# Altium schematic symbol library 74AVCH16T245DGG_18.SchLib: 1 symbol
Pins are listed as number, name and electrical type; pins without a type are passive.

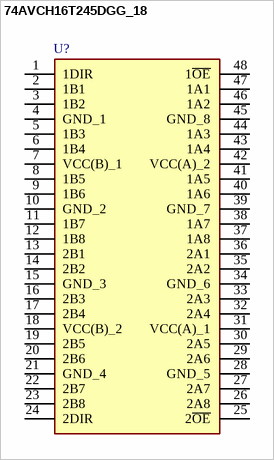
[diagram p0: symbol 74AVCH16T245DGG_18]

## 74AVCH16T245DGG_18
designator U?  (value not drawn)
74AVCH16T245 - 16-bit dual supply translating transceiver with configurable voltage translation; 3-state@en-us; Manufacturer_Name: Nexperia; Manufacturer_Part_Number: 74AVCH16T245DGG,18; Geometry.Height: 1.2mm; Mouser Part Number: 771-74AVCH16T245DG18; Mouser Price/Stock: https://www.mouser.co.uk/ProductDetail/Nexperia/74AVCH16T245DGG18?qs=jquClx72t9CPg4jBxb3qtA%3D%3D; Arrow Part Number: *; Arrow Price/Stock: *; Datasheet Link: https://assets.nexperia.com/documents/data-sheet/74AVCH16T245.pdf
footprint SOP50P810X120-48N
pins: 1 1DIR, 2 1B1, 3 1B2, 4 GND_1, 5 1B3, 6 1B4, 7 VCC(B)_1, 8 1B5, 9 1B6, 10 GND_2, 11 1B7, 12 1B8, 13 2B1, 14 2B2, 15 GND_3, 16 2B3, 17 2B4, 18 VCC(B)_2, 19 2B5, 20 2B6, 21 GND_4, 22 2B7, 23 2B8, 24 2DIR, 25 2~{OE}, 26 2A8, 27 2A7, 28 GND_5, 29 2A6, 30 2A5, 31 VCC(A)_1, 32 2A4, 33 2A3, 34 GND_6, 35 2A2, 36 2A1, 37 1A8, 38 1A7, 39 GND_7, 40 1A6, 41 1A5, 42 VCC(A)_2, 43 1A4, 44 1A3, 45 GND_8, 46 1A2, 47 1A1, 48 1~{OE}